# Altium schematic symbol library SCH - POWER - LINEAR VREG - LT LT1965 DD_MS8E.SCHLIB: 1 symbol
Pins are listed as number, name and electrical type; pins without a type are passive.

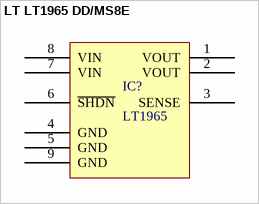
[diagram p0: symbol LT LT1965 DD/MS8E]

## LT LT1965 DD/MS8E
designator IC?, comment LT1965
1.1A, Low Noise, Low Dropout Linear Regulator
footprint LT MSOP-8 MS8E 3x3MM (MSOP, 8-Leads, Body 3.00x3.00mm, Pitch 0.65mm, IPC Medium Density)
pins: 1 VOUT, 2 VOUT, 3 SENSE, 4 GND, 5 GND, 6 ~{SHDN}, 7 VIN, 8 VIN, 9 GND